# Altium footprint library stm32f373-relay-control.PcbLib: 31 footprints (part 2 of 2)
Each footprint in its own frame and in the unit in brackets; x right, y up, seen from the top. Pads: shape width x height; smd on the part's side, far side on the other; paste and mask are expansions set on the pad; w line width, h text height; cw(c..) or ccw(c..) is an arc to the next point about the centre after c.
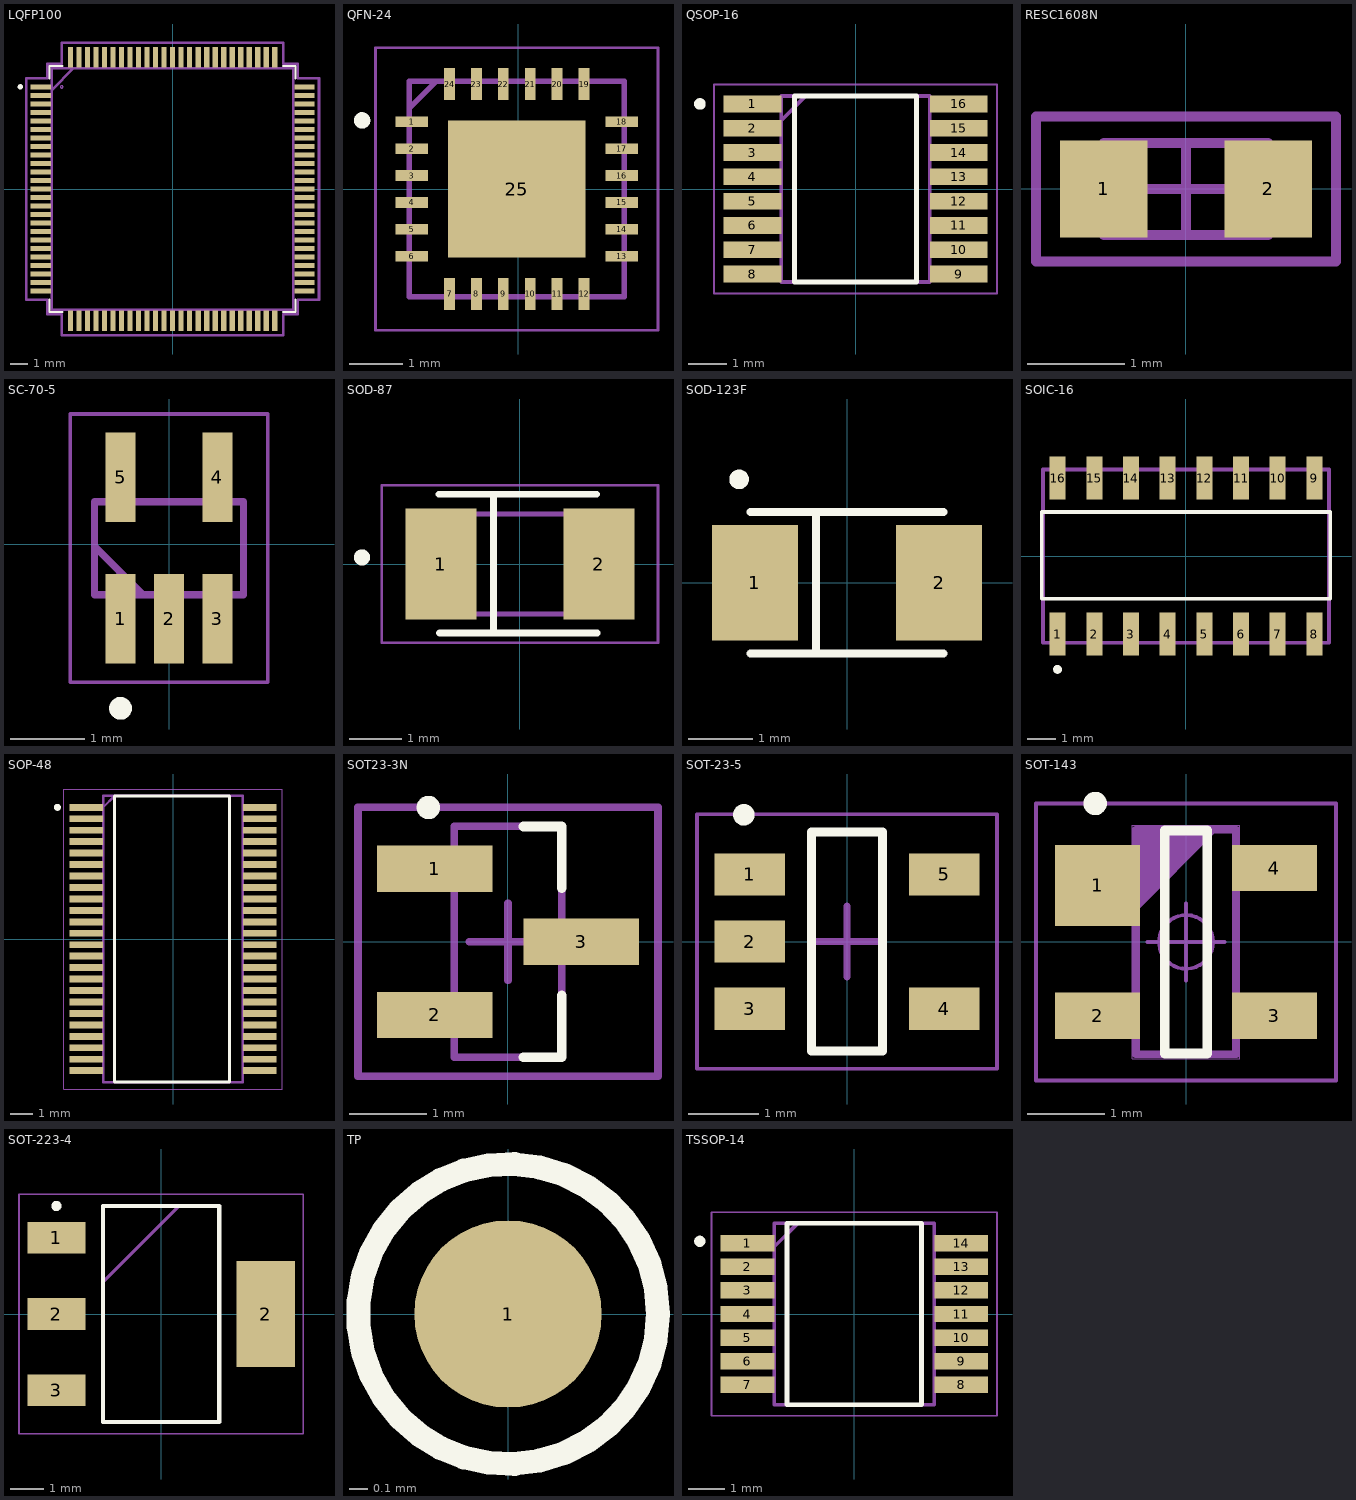
[diagram p1: the footprints below, top view; thin cyan lines are the x and y axes]

## LQFP100 [mil]
pads (100):
  rect 47x12 smd: 1(-305.12,236.22) 2(-305.12,216.54) 3(-305.12,196.85) 4(-305.12,177.17) 5(-305.12,157.48) 6(-305.12,137.8) 7(-305.12,118.11) 8(-305.12,98.43) 9(-305.12,78.74) 10(-305.12,59.06) 11(-305.12,39.37) 12(-305.12,19.69) 13(-305.12,0) 14(-305.12,-19.68) 15(-305.12,-39.37) 16(-305.12,-59.06) 17(-305.12,-78.74) 18(-305.12,-98.43) 19(-305.12,-118.11) 20(-305.12,-137.8) 21(-305.12,-157.48) 22(-305.12,-177.17) 23(-305.12,-196.85) 24(-305.12,-216.54) 25(-305.12,-236.22) 51(305.12,-236.22) 52(305.12,-216.54) 53(305.12,-196.85) 54(305.12,-177.17) 55(305.12,-157.48) 56(305.12,-137.8) 57(305.12,-118.11) 58(305.12,-98.43) 59(305.12,-78.74) 60(305.12,-59.06) 61(305.12,-39.37) 62(305.12,-19.68) 63(305.12,0) 64(305.12,19.68) 65(305.12,39.37) 66(305.12,59.06) 67(305.12,78.74) 68(305.12,98.43) 69(305.12,118.11) 70(305.12,137.8) 71(305.12,157.48) 72(305.12,177.17) 73(305.12,196.85) 74(305.12,216.54) 75(305.12,236.22)
  rect 12x47 smd: 26(-236.22,-305.12) 27(-216.54,-305.12) 28(-196.85,-305.12) 29(-177.17,-305.12) 30(-157.48,-305.12) 31(-137.8,-305.12) 32(-118.11,-305.12) 33(-98.43,-305.12) 34(-78.74,-305.12) 35(-59.06,-305.12) 36(-39.37,-305.12) 37(-19.68,-305.12) 38(0,-305.12) 39(19.68,-305.12) 40(39.37,-305.12) 41(59.06,-305.12) 42(78.74,-305.12) 43(98.43,-305.12) 44(118.11,-305.12) 45(137.8,-305.12) 46(157.48,-305.12) 47(177.17,-305.12) 48(196.85,-305.12) 49(216.54,-305.12) 50(236.22,-305.12) 76(236.22,305.12) 77(216.54,305.12) 78(196.85,305.12) 79(177.17,305.12) 80(157.48,305.12) 81(137.8,305.12) 82(118.11,305.12) 83(98.43,305.12) 84(78.74,305.12) 85(59.06,305.12) 86(39.37,305.12) 87(19.68,305.12) 88(0,305.12) 89(-19.68,305.12) 90(-39.37,305.12) 91(-59.06,305.12) 92(-78.74,305.12) 93(-98.43,305.12) 94(-118.11,305.12) 95(-137.8,305.12) 96(-157.48,305.12) 97(-177.17,305.12) 98(-196.85,305.12) 99(-216.54,305.12) 100(-236.22,305.12)
Top Overlay:
  circle w6: c-352.43,236.42 r3
  lines w5: -284.5,-255.32 -284.5,-284.5 -255.32,-284.5 ; -284.5,255.32 -284.5,284.5 -255.32,284.5 ; 255.32,-284.5 284.5,-284.5 284.5,-255.32 ; 255.32,284.5 284.5,284.5 284.5,255.32
Mechanical 1:
  circle w1: c-256.62,236.22 r3
  lines w1: -279.5,229.5 -229.5,279.5 ; -279.5,-279.5 279.5,-279.5 279.5,279.5 -279.5,279.5 -279.5,-279.5
Mechanical 13:
  lines w6: -279.5,229.5 -229.5,279.5 ; -279.5,-279.5 279.5,-279.5 279.5,279.5 -279.5,279.5 -279.5,-279.5
Mechanical 15:
  lines w6: -338.62,-256.22 -289.5,-256.22 -289.5,-289.5 -256.22,-289.5 -256.22,-338.62 256.22,-338.62 256.22,-289.5 289.5,-289.5 289.5,-256.22 338.62,-256.22 338.62,256.22 289.5,256.22 289.5,289.5 256.22,289.5 256.22,338.62 -256.22,338.62 -256.22,289.5 -289.5,289.5 -289.5,256.22 -338.62,256.22 -338.62,-256.22
3D body "LQFP_0.5P_100.SLDPRT": height 64.96, standoff -1.96, extent -315.13,-315.13 315.14,315.14

## QFN-24 [mm]
pads (25):
  rect 0.6x0.2 smd: 1(-1.975,1.25) 2(-1.975,0.75) 3(-1.975,0.25) 4(-1.975,-0.25) 5(-1.975,-0.75) 6(-1.975,-1.25) 13(1.925,-1.25) 14(1.925,-0.75) 15(1.925,-0.25) 16(1.925,0.25) 17(1.925,0.75) 18(1.925,1.25)
  rect 0.2x0.6 smd: 7(-1.275,-1.95) 8(-0.775,-1.95) 9(-0.275,-1.95) 10(0.225,-1.95) 11(0.725,-1.95) 12(1.225,-1.95) 19(1.225,1.95) 20(0.725,1.95) 21(0.225,1.95) 22(-0.275,1.95) 23(-0.775,1.95) 24(-1.275,1.95)
  rect 2.55x2.55 smd: 25(-0.025,0)
Top Overlay:
  circle w0.152: c-2.9,1.275 r0.076
Mechanical 15:
  lines w0.05: -2.65,-2.625 2.6,-2.625 2.6,2.625 -2.65,2.625 -2.65,-2.625
  lines w0.1: -2.025,1.5 -1.525,2 ; -2.025,-2 -2.025,2 1.975,2 1.975,-2 -2.025,-2
3D body "CP2102N-A02-GQFN24.stp": height 0.8, standoff 0, extent -2.075,-2.05 2.025,2.05

## QSOP-16 [mm]
pads (16):
  rect 1.52x0.44 smd: 1(-2.715,2.24) 2(-2.715,1.6) 3(-2.715,0.96) 4(-2.715,0.32) 5(-2.715,-0.32) 6(-2.715,-0.96) 7(-2.715,-1.6) 8(-2.715,-2.24) 9(2.715,-2.24) 10(2.715,-1.6) 11(2.715,-0.96) 12(2.715,-0.32) 13(2.715,0.32) 14(2.715,0.96) 15(2.715,1.6) 16(2.715,2.24)
Top Overlay:
  circle w0.152: c-4.1,2.24 r0.076
  lines w0.127: -1.605,-2.45 1.605,-2.45 1.605,2.45 -1.605,2.45 -1.605,-2.45
Mechanical 13:
  lines w0.1: -1.955,1.81 -1.315,2.45 ; -1.955,-2.45 1.955,-2.45 1.955,2.45 -1.955,2.45 -1.955,-2.45
Mechanical 15:
  lines w0.05: -3.725,-2.75 3.725,-2.75 3.725,2.75 -3.725,2.75 -3.725,-2.75
3D body "ADG794BRQZ.stp": height 1.75, standoff 0, extent -2.997,-2.45 2.997,2.45

## RESC1608N [mm] "Chip Resistor, Body 1.6x0.8mm, IPC Medium Density"
height 0.6
pads (2):
  rect 0.9x1 smd: 1(-0.85,0) 2(0.85,0)
Mechanical 13:
  lines w0.1: -0.85,-0.475 -0.85,0.475 0.85,0.475 0.85,-0.475 -0.85,-0.475
Mechanical 15:
  lines w0.1: -0.475,0 0.475,0 ; 0,-0.475 0,0.475 ; -1.55,-0.75 -1.55,0.75 1.55,0.75 1.55,-0.75 -1.55,-0.75
3D body "0603S1.STEP": height 0.43, standoff -0.02, extent -0.988,-0.45 0.988,0.529

## SC-70-5 [mm]
pads (5):
  rect 0.4x1.2 smd mask+0.05: 1(-0.65,-1) 2(0,-1) 3(0.65,-1)
  rect 0.4x1.2 smd: 4(0.65,0.9) 5(-0.65,0.9)
Top Overlay:
  circle w0.152: c-0.65,-2.2 r0.076
Mechanical 13:
  lines w0.1: -1,-0.025 -0.35,-0.675 ; -1,-0.675 1,-0.675 1,0.575 -1,0.575 -1,-0.675
Mechanical 15:
  lines w0.05: -1.325,-1.85 1.325,-1.85 1.325,1.75 -1.325,1.75 -1.325,-1.85
3D body "LMV321AIDCKR.stp": height 1.1, standoff 0, extent -1,-1.1 1,1

## SOD-87 [mm]
pads (2):
  rect 1.35x2.1 smd: 1(-1.5,0) 2(1.5,0)
Top Overlay:
  circle w0.152: c-3,0.125 r0.076
  lines w0.127: -1.544,1.325 1.456,1.325 ; -1.529,-1.31 1.471,-1.31 ; -0.5,-1.31 -0.5,1.325
Mechanical 13:
  lines w0.1: -1.7,0.275 -1.025,0.95 ; -1.7,-0.95 -1.7,0.95 1.7,0.95 1.7,-0.95 -1.7,-0.95
Mechanical 15:
  lines w0.05: -2.625,-1.5 -2.625,1.5 2.625,1.5 2.625,-1.5 -2.625,-1.5
3D body "cd1408-r1200.STEP": height 1.05, standoff -0.1, extent -1.7,-0.95 1.7,0.95

## SOD-123F [mm]
pads (2):
  rect 1.34x1.8 smd paste-0.025 mask+0.07: 1(-1.43,0) 2(1.43,0)
Top Overlay:
  circle w0.152: c-1.677,1.605 r0.076
  lines w0.127: -1.5,-1.1 1.5,-1.1 ; -1.5,1.1 1.5,1.1 ; -0.483,-1.092 -0.483,1.1
3D body "SOD123.STEP": height 1.27, standoff 0, extent -1.85,-0.8 1.85,0.8

## SOIC-16 [mm]
pads (16):
  rect 0.55x1.5 smd: 1(-4.445,-2.7) 2(-3.175,-2.7) 3(-1.905,-2.7) 4(-0.635,-2.7) 5(0.635,-2.7) 6(1.905,-2.7) 7(3.175,-2.7) 8(4.445,-2.7) 9(4.445,2.7) 10(3.175,2.7) 11(1.905,2.7) 12(0.635,2.7) 13(-0.635,2.7) 14(-1.905,2.7) 15(-3.175,2.7) 16(-4.445,2.7)
Top Overlay:
  circle w0.152: c-4.45,-3.925 r0.076
  lines w0.127: -5,-1.475 -5,1.525 5,1.525 5,-1.475 -5,-1.475
Mechanical 15:
  lines w0.127: -4.95,-3 -4.95,3 4.95,3 4.95,-3 -4.95,-3
3D body "SOIC-16-1.step": height 1.4, standoff 0, extent -4.95,-3 4.95,3

## SOP-48 [mm]
pads (48):
  rect 1.475x0.3 smd: 1(-3.788,5.75) 2(-3.788,5.25) 3(-3.788,4.75) 4(-3.788,4.25) 5(-3.788,3.75) 6(-3.788,3.25) 7(-3.788,2.75) 8(-3.788,2.25) 9(-3.788,1.75) 10(-3.788,1.25) 11(-3.788,0.75) 12(-3.788,0.25) 13(-3.788,-0.25) 14(-3.788,-0.75) 15(-3.788,-1.25) 16(-3.788,-1.75) 17(-3.788,-2.25) 18(-3.788,-2.75) 19(-3.788,-3.25) 20(-3.788,-3.75) 21(-3.788,-4.25) 22(-3.788,-4.75) 23(-3.788,-5.25) 24(-3.788,-5.75) 25(3.788,-5.75) 26(3.788,-5.25) 27(3.788,-4.75) 28(3.788,-4.25) 29(3.788,-3.75) 30(3.788,-3.25) 31(3.788,-2.75) 32(3.788,-2.25) 33(3.788,-1.75) 34(3.788,-1.25) 35(3.788,-0.75) 36(3.788,-0.25) 37(3.788,0.25) 38(3.788,0.75) 39(3.788,1.25) 40(3.788,1.75) 41(3.788,2.25) 42(3.788,2.75) 43(3.788,3.25) 44(3.788,3.75) 45(3.788,4.25) 46(3.788,4.75) 47(3.788,5.25) 48(3.788,5.75)
Top Overlay:
  circle w0.152: c-5.05,5.75 r0.076
  lines w0.127: -2.55,-6.25 2.475,-6.25 2.475,6.25 -2.55,6.25 -2.55,-6.25
Mechanical 13:
  lines w0.1: -3.05,5.75 -2.55,6.25 ; -3.05,-6.25 3.05,-6.25 3.05,6.25 -3.05,6.25 -3.05,-6.25
Mechanical 15:
  lines w0.05: -4.775,-6.55 4.775,-6.55 4.775,6.55 -4.775,6.55 -4.775,-6.55
3D body "PI3L301DAEX.stp": height 1.2, standoff 0, extent -4.05,-6.25 4.05,6.25

## SOT23-3N [mm] "SOT23, 3-Leads, Body 2.9x1.3mm, Pitch 0.95mm, Lead Span 2.5mm, IPC Medium Density"
height 1.1
pads (3):
  rect 1.5x0.6 smd: 1(-0.95,0.95) 2(-0.95,-0.95) 3(0.95,0)
Top Overlay:
  circle w0.152: c-1.036,1.746 r0.076
  lines w0.127: 0.2,-1.5 0.7,-1.5 0.7,-0.7 ; 0.2,1.5 0.7,1.5 0.7,0.7
Mechanical 13:
  lines w0.1: -0.7,-1.5 -0.7,1.5 0.7,1.5 0.7,-1.5 -0.7,-1.5
Mechanical 15:
  lines w0.1: -0.5,0 0.5,0 ; 0,-0.5 0,0.5 ; -1.95,-1.75 -1.95,1.75 1.95,1.75 1.95,-1.75 -1.95,-1.75
3D body "sot23-3_p0-95_l3-04_w1-4.stp": height 0.94, standoff -0.1, extent -1.345,-1.52 1.295,1.52

## SOT-23-5 [mm] "SOT23, 6-Leads, Body 2,90x2,80mm, Pitch 0,95mm, IPC Medium Density"
height 1
pads (5):
  rect 1x0.6 smd: 1(-1.375,0.95) 2(-1.375,0) 3(-1.375,-0.95) 4(1.375,-0.95) 5(1.375,0.95)
Top Overlay:
  circle w0.152: c-1.461,1.796 r0.076
  lines w0.127: -0.5,-1.55 -0.5,1.55 0.5,1.55 0.5,-1.55 -0.5,-1.55
Mechanical 15:
  lines w0.05: -2.125,-1.8 2.125,-1.8 2.125,1.8 -2.125,1.8 -2.125,-1.8
  lines w0.1: -0.5,0 0.5,0 ; 0,-0.5 0,0.5
3D body "SOT-23-5.STEP": height 1.46, standoff 0, extent -1.5,-1.5 1.5,1.5

## SOT-143 [mm]
pads (4):
  rect 1.1x1.05 smd: 1(-1.15,0.735)
  rect 1.1x0.6 smd: 2(-1.15,-0.96) 3(1.15,-0.96) 4(1.15,0.96)
Top Overlay:
  circle w0.152: c-1.181,1.8 r0.076
  lines w0.127: -0.275,-1.45 -0.275,1.45 0.275,1.45 0.275,-1.45 -0.275,-1.45
Mechanical 13:
  lines w0.1: -0.65,0.46 0.35,1.46 ; -0.65,0.56 0.25,1.46 ; -0.65,0.66 0.15,1.46 ; -0.65,0.76 0.05,1.46 ; -0.65,0.86 -0.05,1.46 ; -0.65,0.96 -0.15,1.46 ; -0.65,1.06 -0.25,1.46 ; -0.65,1.16 -0.35,1.46 ; -0.65,1.26 -0.45,1.46 ; -0.65,1.36 -0.55,1.46 ; -0.65,-1.46 -0.65,1.46 0.65,1.46 0.65,-1.46 -0.65,-1.46
Mechanical 15:
  circle w0.05: c0,0 r0.35
  lines w0.001: -0.7,-1.52 -0.7,1.52 0.7,1.52 0.7,-1.52 -0.7,-1.52
  lines w0.05: -0.5,0 0.5,0 ; 0,-0.5 0,0.5 ; -1.95,-1.8 -1.95,1.8 1.95,1.8 1.95,-1.8 -1.95,-1.8
3D body "User Library-SOT143-1.STEP": height 1.22, standoff 0, extent -1.181,-1.45 1.182,1.45

## SOT-223-4 [mm]
pads (4):
  rect 1.75x0.95 smd: 1(-3.15,2.3) 2(-3.15,0) 3(-3.15,-2.3)
  rect 1.75x3.2 smd: 2(3.15,0)
Top Overlay:
  circle w0.152: c-3.15,3.25 r0.076
  lines w0.127: -1.75,-3.25 -1.75,3.25 1.75,3.25 1.75,-3.25 -1.75,-3.25
Mechanical 13:
  lines w0.1: -1.75,0.95 0.55,3.25 ; -1.75,-3.25 -1.75,3.25 1.75,3.25 1.75,-3.25 -1.75,-3.25
Mechanical 15:
  lines w0.05: -4.275,-3.6 -4.275,3.6 4.275,3.6 4.275,-3.6 -4.275,-3.6
3D body "LM317MQDCYR.stp": height 1.8, standoff 0, extent -3.5,-3.25 3.5,3.25

## TP [mm]
pads (1):
  round 1 smd paste-2 mask+0.1: 1(0,0)
Top Overlay:
  circle w0.127: c0,0 r0.8

## TSSOP-14 [mm]
pads (14):
  rect 1.475x0.45 smd: 1(-2.938,1.95) 2(-2.938,1.3) 3(-2.938,0.65) 4(-2.938,0) 5(-2.938,-0.65) 6(-2.938,-1.3) 7(-2.938,-1.95) 8(2.938,-1.95) 9(2.938,-1.3) 10(2.938,-0.65) 11(2.938,0) 12(2.938,0.65) 13(2.938,1.3) 14(2.938,1.95)
Top Overlay:
  circle w0.152: c-4.25,2 r0.076
  lines w0.127: -1.85,-2.5 1.85,-2.5 1.85,2.5 -1.85,2.5 -1.85,-2.5
Mechanical 13:
  lines w0.1: -2.2,1.85 -1.55,2.5 ; -2.2,-2.5 2.2,-2.5 2.2,2.5 -2.2,2.5 -2.2,-2.5
Mechanical 15:
  lines w0.05: -3.925,-2.8 3.925,-2.8 3.925,2.8 -3.925,2.8 -3.925,-2.8
3D body "OP462HRUZ-REEL.stp": height 1.2, standoff 0, extent -3.2,-2.5 3.2,2.5